# Altium footprint library TSSOP-14.PcbLib: 1 footprints
Each footprint in its own frame and in the unit in brackets; x right, y up, seen from the top. Pads: shape width x height; smd on the part's side, far side on the other; paste and mask are expansions set on the pad; w line width, h text height; cw(c..) or ccw(c..) is an arc to the next point about the centre after c.
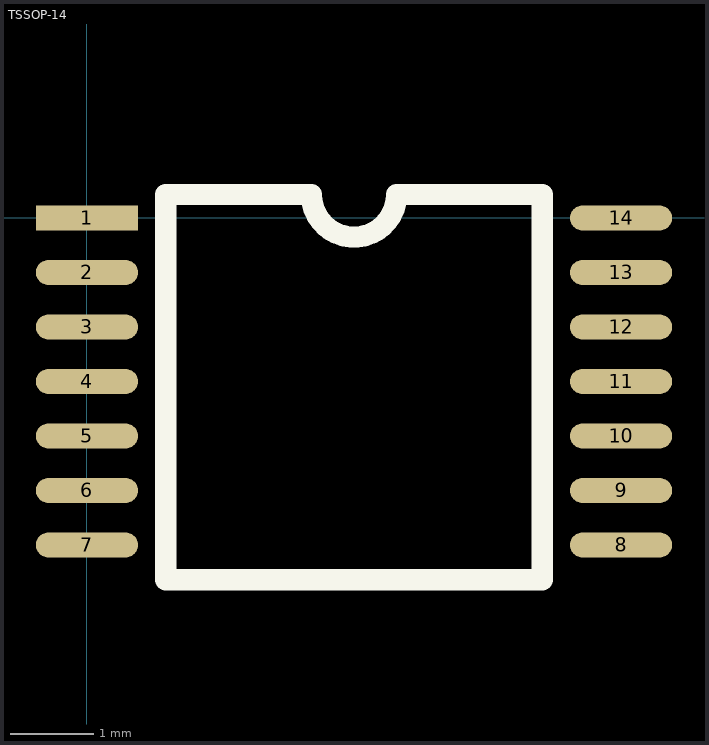
[diagram p0: the footprint, top view; thin cyan lines are the x and y axes]

## TSSOP-14 [mil]
height 100
pads (14):
  rect 48x11.8 smd: 1(0,0)
  oval 48x11.8 smd: 2(0,-25.6) 3(0,-51.2) 4(0,-76.8) 5(0,-102.4) 6(0,-128) 7(0,-153.6) 8(251,-153.6) 9(251,-128) 10(251,-102.4) 11(251,-76.8) 12(251,-51.2) 13(251,-25.6) 14(251,0)
TopOverlay:
  lines w10: 37,-170 214,-170 ; 37,-169.6 37,11 105.5,11 ccw(c125.5,11) 145.5,11 214,11 214,-169.6
Mechanical4:
  text ".040" at 0,0 h1
3D body: height 47.24, standoff 0, extent -0.2,-175.49 253.96,21.36